# EAGLE library part IR2104 (library LARS_409_MC3)
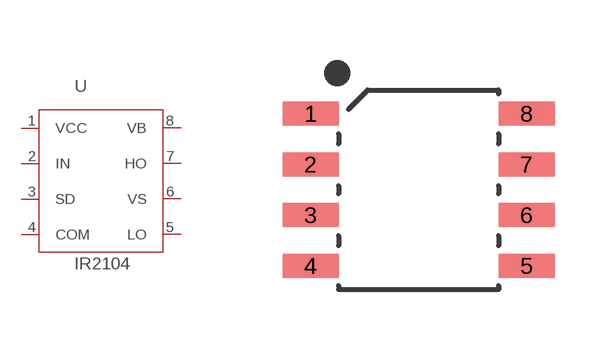
[diagram p1: symbol with the pads of SOIC-8; footprint SOIC-8]

Designator prefix U

## IR2104  [SOIC-8]
1  VCC
2  IN
3  SD
4  COM
5  LO
6  VS
7  HO
8  VB

## Footprint SOIC-8 (pad centres in mm)
8-SOIC, 1.27 mm pitch, 6.00 mm span, 4.90 X 4.90 X 1.50 mm body 8-pin SOIC package with 1.27 mm pitch, 6.00 mm span with body size 4.90 X 4.90 X 1.50 mm
smd 1.4 x 0.6: 1 -2.7,1.905; 2 -2.7,0.635; 3 -2.7,-0.635; 4 -2.7,-1.905; 5 2.7,-1.905; 6 2.7,-0.635; 7 2.7,0.635; 8 2.7,1.905